# Altium footprint library 19398701.PcbLib: 1 footprints
Each footprint in its own frame and in the unit in brackets; x right, y up, seen from the top. Pads: shape width x height; smd on the part's side, far side on the other; paste and mask are expansions set on the pad; w line width, h text height; cw(c..) or ccw(c..) is an arc to the next point about the centre after c.
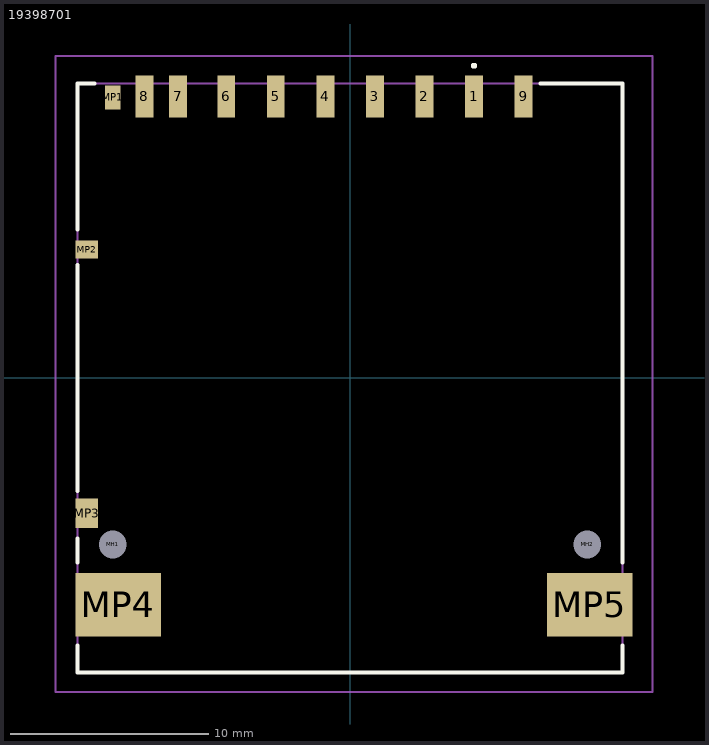
[diagram p0: the footprint, top view; thin cyan lines are the x and y axes]

## 19398701 [mm]
pads (16):
  rect 0.9x2.1 smd: 1(6.255,14.2) 2(3.755,14.2) 3(1.255,14.2) 4(-1.245,14.2) 5(-3.745,14.2) 6(-6.245,14.2) 7(-8.67,14.2) 8(-10.37,14.2) 9(8.755,14.2)
  round 0.7 hole 1.4 unplated: MH1(-11.97,-8.4) MH2(11.97,-8.4)
  rect 0.8x1.2 smd: MP1(-11.97,14.15)
  rect 1.13x0.9 smd: MP2(-13.285,6.48)
  rect 1.13x1.5 smd: MP3(-13.285,-6.83)
  rect 4.32x3.2 smd: MP4(-11.69,-11.45) MP5(12.09,-11.45)
Top Overlay:
  lines w0.2: -13.75,-13.5 -13.75,-14.85 13.75,-14.85 13.75,-13.5 ; -13.75,-9.3 -13.75,-8.1 ; -13.75,-5.7 -13.75,5.7 ; -13.75,7.5 -13.75,14.85 -12.9,14.85 ; 9.6,14.85 13.75,14.85 13.75,-9.3 ; 6.255,15.7 cw(c6.255,15.75) 6.255,15.8 ; 6.255,15.7 6.255,15.7 ; 6.255,15.7 ccw(c6.255,15.75) 6.255,15.8 ; 6.255,15.7 cw(c6.255,15.75) 6.255,15.8 ; 6.255,15.8 6.255,15.8 ; 6.255,15.8 6.255,15.8
Mechanical 15:
  lines w0.1: -13.75,-14.85 13.75,-14.85 13.75,14.85 -13.75,14.85 -13.75,-14.85
Mechanical 20:
  lines w0.1: -14.85,-15.85 15.25,-15.85 15.25,16.25 -14.85,16.25 -14.85,-15.85